# EAGLE library part 687133183622 (library Eagle_FPC_CONNECTOR_AND_FFC_CAB (rev18c))
687133183622 WR-FPC 0.50mm SMT Horizontal Top Contact - Low Profile <http://katalog.we-online.de/media/images/v2/Family_WR-FPC_6871xx183622.jpg> Details see: http://katalog.we-online.de/en/em/FPC_0_5_SMT_ZIF_HORIZONTAL_TOP_CONTACT_LOW_PROFILE_6871xx183622 Created by Yingchun,shan 2016 (C) Wurth Elektronik
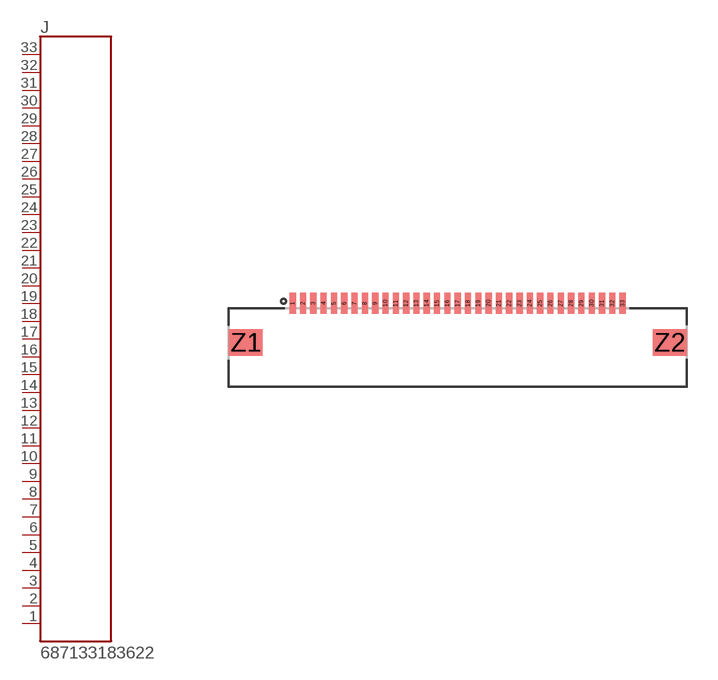
[diagram p190: symbol with the pads of 687133183622; footprint 687133183622]

Designator prefix J

## 687133183622  [687133183622]
1  33  pas
2  32  pas
3  31  pas
4  30  pas
5  29  pas
6  28  pas
7  27  pas
8  26  pas
9  25  pas
10  24  pas
11  23  pas
12  22  pas
13  21  pas
14  20  pas
15  19  pas
16  18  pas
17  17  pas
18  16  pas
19  15  pas
20  14  pas
21  13  pas
22  12  pas
23  11  pas
24  10  pas
25  9  pas
26  8  pas
27  7  pas
28  6  pas
29  5  pas
30  4  pas
31  3  pas
32  2  pas
33  1  pas

## Footprint 687133183622 (pad centres in mm)
smd 0.3 x 1: 1 -8.25,1.9; 2 -7.75,1.9; 3 -7.25,1.9; 4 -6.75,1.9; 5 -6.25,1.9; 6 -5.75,1.9; 7 -5.25,1.9; 8 -4.75,1.9; 9 -4.25,1.9; 10 -3.75,1.9; 11 -3.25,1.9; 12 -2.75,1.9; 13 -2.25,1.9; 14 -1.75,1.9; 15 -1.25,1.9; 16 -0.75,1.9; 17 -0.25,1.9; 18 0.25,1.9; 19 0.75,1.9; 20 1.25,1.9; 21 1.75,1.9; 22 2.25,1.9; 23 2.75,1.9; 24 3.25,1.9; 25 3.75,1.9; 26 4.25,1.9; 27 4.75,1.9; 28 5.25,1.9; 29 5.75,1.9; 30 6.25,1.9; 31 6.75,1.9; 32 7.25,1.9; 33 7.75,1.9
smd 1.65 x 1.3: Z1 -10.525,0; Z2 10.025,0